# Altium integrated library Analog Devices Data Converters Analog-to-Digital Converters.IntLib: 2404 symbols (part 61 of 346)
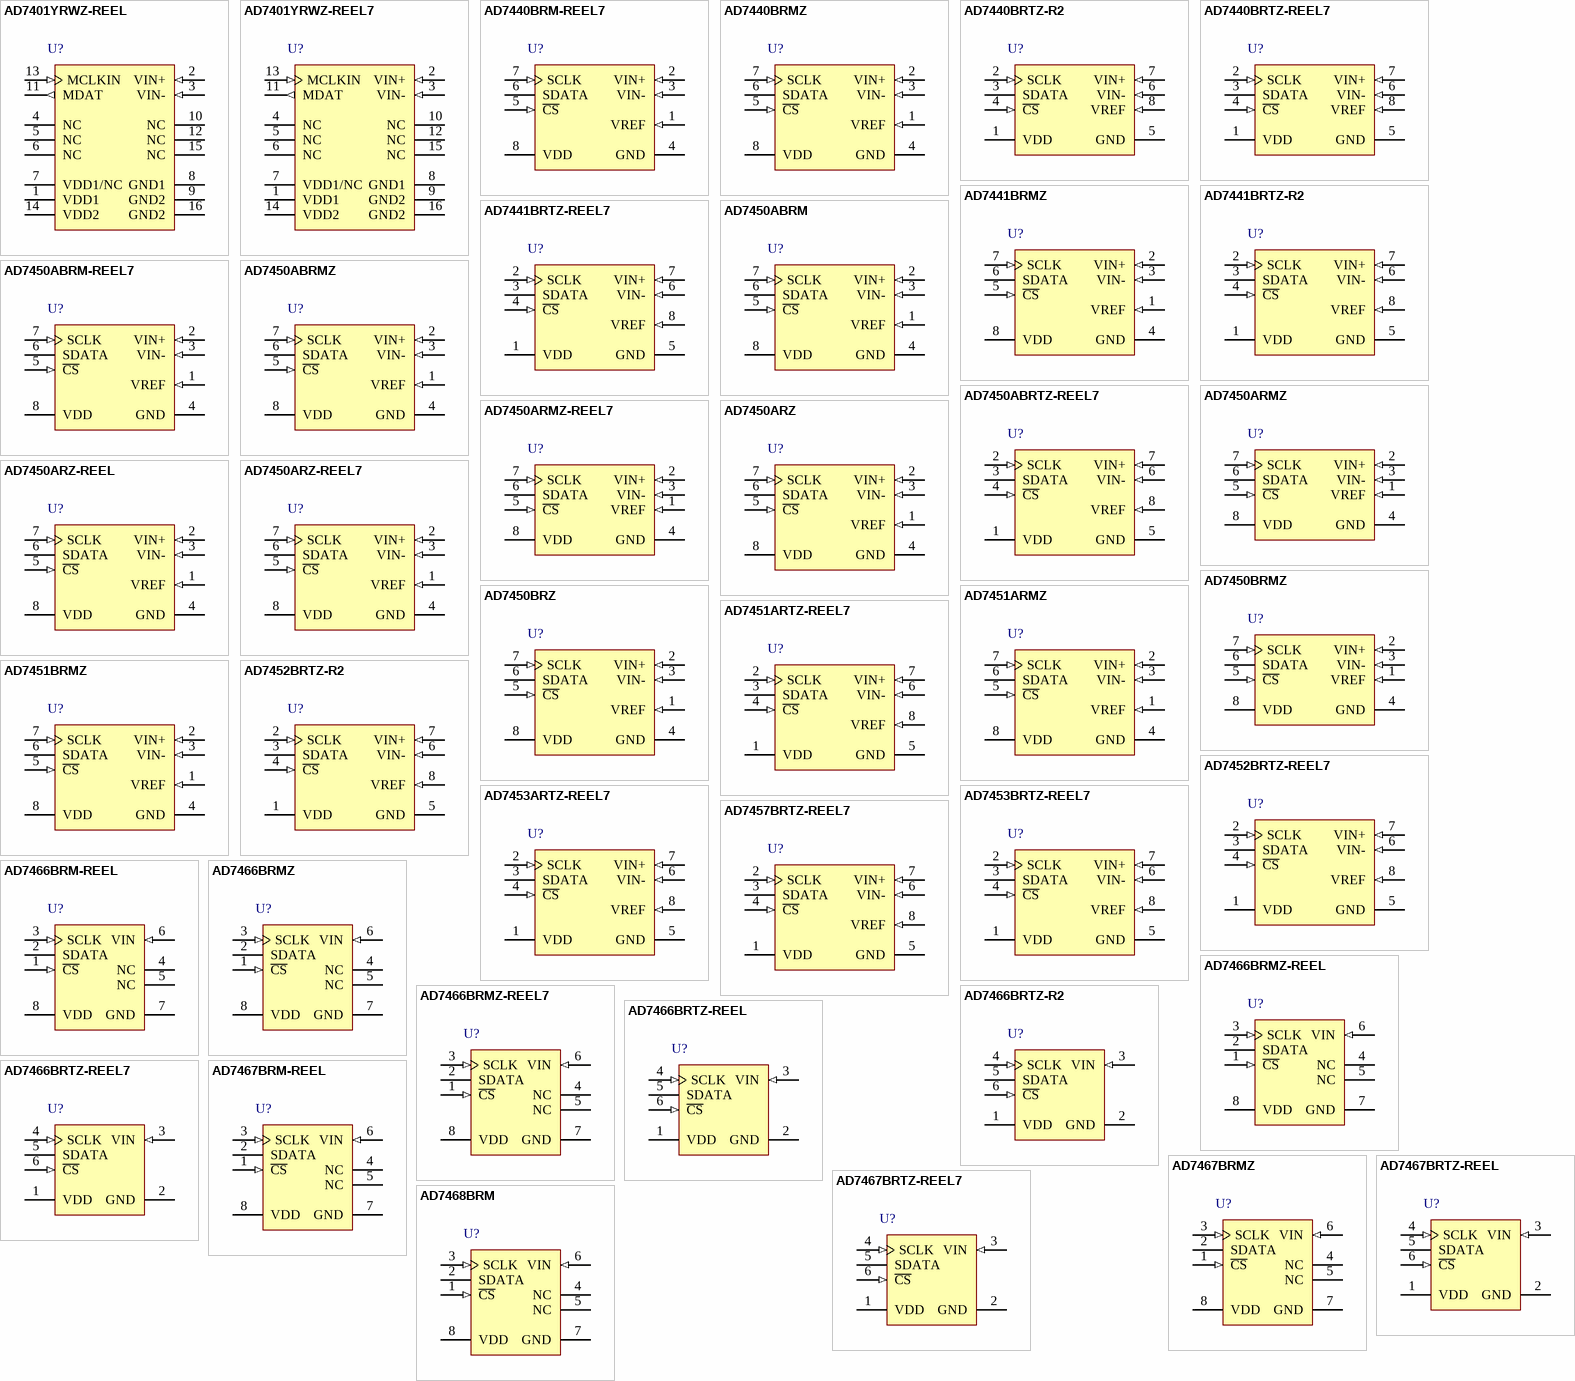
[diagram p288: symbols AD7401YRWZ-REEL to AD7468BRM]

## AD7453ARTZ-REEL7
designator U?
Single 12-Bit Analog-to-Digital Converter with Serial, SPI Interface, 555KSPS, -40 to +85 degC, RJ-8, Pb-Free, Reel; Generic Part Number: AD7453; Manufacturer: Analog Devices; PartNumber: AD7453ARTZ-REEL7; Resolution (Bits): 12; Channels: 1; Throughput Rate (SPS): 555K; Interface: Ser, SPI; DatasheetVersion: Rev.B; PackageVersion: 121608-A; PackageReference: RJ-8; PackageDescription: 8-Lead Thin Small Outline Transistor Package [SOT-23]; Supplier 1: Digi-Key; Supplier Part Number 1: AD7453ARTZ-REEL7TR-ND; Supplier 2: Digi-Key; Supplier Part Number 2: AD7453ARTZ-REEL7CT-ND; Supplier 3: Digi-Key; Supplier Part Number 3: AD7453ARTZ-REEL7DKR-ND; Supplier 4: Mouser; Supplier Part Number 4: 584-AD7453ARTZ-R7; RoHS: Y; Packing: Reel; Mounting Technology: Surface Mount; Code_JEDEC: MO-178-BA; ComponentLink1Description: Manufacturer URL; ComponentLink1URL: http://www.analog.com/en/index.html; ComponentLink2Description: Datasheet; ComponentLink2URL: http://www.analog.com/static/imported-files/data_sheets/AD7453.pdf; ComponentLink3Description: Package Specification; ComponentLink3URL: http://www.analog.com/static/imported-files/packages/PKG_PDF/SOT-23(RJ)/RJ_8.pdf; ComponentLink4Description: Product URL; ComponentLink4URL: http://www.analog.com/en/analog-to-digital-converters/ad-converters/ad7453/products/product.html
footprint RJ-8_N (SOP, 8-Leads, Body 2.9x1.6mm, Pitch 0.65mm, IPC Medium Density)
footprint RJ-8_L (SOP, 8-Leads, Body 2.9x1.6mm, Pitch 0.65mm, IPC High Density)
footprint RJ-8_M (SOP, 8-Leads, Body 2.9x1.6mm, Pitch 0.65mm, IPC Low Density)
pins: 1 VDD (power) "Power Supply Input. VDD is 2.7 V to 5.25 V. This supply should be decoupled to GND with a 0.1 uF capacitor and a 10 uF tantalum capacitor.", 2 SCLK (in) "Serial Clock. Logic input. SCLK provides the serial clock for accessing data from the part. This clock input is also used as the clock source for the conversion process.", 3 SDATA (hiz) "Serial Data. Logic output. The conversion result from the AD7453 is provided on this output as a serial data stream. The bits are clocked out on the falling edge of the SCLK input. The data stream of the AD7453 consists of (See Datasheet)", 4 ~{CS} (in) "Chip Select. Active low logic input. This input provides the dual function of initiating a conversion on the AD7453 and framing the serial data transfer.", 5 GND (power) "Analog Ground. Ground reference point for all circuitry on the AD7453. All analog input signals and any external reference signal should be referred to this GND voltage.", 6 VIN- (in) "Inverting Input. This pin sets the ground reference point for the VIN+ input. Connect to ground or to a dc offset to provide a pseudo ground.", 7 VIN+ (in) "Noninverting Analog Input.", 8 VREF (in) "Reference Input for the AD7453. An external reference in the range 100 mV to VDD must be applied to this input. The specified reference input is 2.5 V. This pin should be decoupled to GND with a capacitor of at least 0.1 uF."

## AD7453BRTZ-REEL7
designator U?
Single 12-Bit Analog-to-Digital Converter with Serial, SPI Interface, 555KSPS, -40 to +85 degC, RJ-8, Pb-Free, Reel; Generic Part Number: AD7453; Manufacturer: Analog Devices; PartNumber: AD7453BRTZ-REEL7; Resolution (Bits): 12; Channels: 1; Throughput Rate (SPS): 555K; Interface: Ser, SPI; DatasheetVersion: Rev.B; PackageVersion: 121608-A; PackageReference: RJ-8; PackageDescription: 8-Lead Thin Small Outline Transistor Package [SOT-23]; Supplier 1: Digi-Key; Supplier Part Number 1: AD7453BRTZ-REEL7-ND; Supplier 2: Mouser; Supplier Part Number 2: 584-AD7453BRTZ-R7; RoHS: Y; Packing: Reel; Mounting Technology: Surface Mount; Code_JEDEC: MO-178-BA; ComponentLink1Description: Manufacturer URL; ComponentLink1URL: http://www.analog.com/en/index.html; ComponentLink2Description: Datasheet; ComponentLink2URL: http://www.analog.com/static/imported-files/data_sheets/AD7453.pdf; ComponentLink3Description: Package Specification; ComponentLink3URL: http://www.analog.com/static/imported-files/packages/PKG_PDF/SOT-23(RJ)/RJ_8.pdf; ComponentLink4Description: Product URL; ComponentLink4URL: http://www.analog.com/en/analog-to-digital-converters/ad-converters/ad7453/products/product.html
footprint RJ-8_N (SOP, 8-Leads, Body 2.9x1.6mm, Pitch 0.65mm, IPC Medium Density)
footprint RJ-8_L (SOP, 8-Leads, Body 2.9x1.6mm, Pitch 0.65mm, IPC High Density)
footprint RJ-8_M (SOP, 8-Leads, Body 2.9x1.6mm, Pitch 0.65mm, IPC Low Density)
pins: 1 VDD (power) "Power Supply Input. VDD is 2.7 V to 5.25 V. This supply should be decoupled to GND with a 0.1 uF capacitor and a 10 uF tantalum capacitor.", 2 SCLK (in) "Serial Clock. Logic input. SCLK provides the serial clock for accessing data from the part. This clock input is also used as the clock source for the conversion process.", 3 SDATA (hiz) "Serial Data. Logic output. The conversion result from the AD7453 is provided on this output as a serial data stream. The bits are clocked out on the falling edge of the SCLK input. The data stream of the AD7453 consists of (See Datasheet)", 4 ~{CS} (in) "Chip Select. Active low logic input. This input provides the dual function of initiating a conversion on the AD7453 and framing the serial data transfer.", 5 GND (power) "Analog Ground. Ground reference point for all circuitry on the AD7453. All analog input signals and any external reference signal should be referred to this GND voltage.", 6 VIN- (in) "Inverting Input. This pin sets the ground reference point for the VIN+ input. Connect to ground or to a dc offset to provide a pseudo ground.", 7 VIN+ (in) "Noninverting Analog Input.", 8 VREF (in) "Reference Input for the AD7453. An external reference in the range 100 mV to VDD must be applied to this input. The specified reference input is 2.5 V. This pin should be decoupled to GND with a capacitor of at least 0.1 uF."

## AD7457BRTZ-REEL7
designator U?
Single 12-Bit Low Power Analog-to-Digital Converter with Serial, SPI Interface, 100KSPS, -40 to +85 degC, RJ-8, Pb-Free, Reel; Generic Part Number: AD7457; Manufacturer: Analog Devices; PartNumber: AD7457BRTZ-REEL7; Resolution (Bits): 12; Channels: 1; Throughput Rate (SPS): 100K; Interface: Ser, SPI; DatasheetVersion: Rev.A; PackageVersion: 121608-A; PackageReference: RJ-8; PackageDescription: 8-Lead Thin Small Outline Transistor Package [SOT-23]; Supplier 1: Digi-Key; Supplier Part Number 1: AD7457BRTZ-REEL7TR-ND; Supplier 2: Digi-Key; Supplier Part Number 2: AD7457BRTZ-REEL7CT-ND; Supplier 3: Digi-Key; Supplier Part Number 3: AD7457BRTZ-REEL7DKR-ND; Supplier 4: Farnell; Supplier Part Number 4: 2314135; Supplier 5: Newark; Supplier Part Number 5: 67W3172; Supplier 6: Newark; Supplier Part Number 6: 59K4842; Supplier 7: Mouser; Supplier Part Number 7: 584-AD7457BRTZ-R7; RoHS: Y; Packing: Reel; Mounting Technology: Surface Mount; Code_JEDEC: MO-178-BA; ComponentLink1Description: Manufacturer URL; ComponentLink1URL: http://www.analog.com/en/index.html; ComponentLink2Description: Datasheet; ComponentLink2URL: http://www.analog.com/static/imported-files/data_sheets/AD7457.pdf; ComponentLink3Description: Package Specification; ComponentLink3URL: http://www.analog.com/static/imported-files/packages/PKG_PDF/SOT-23(RJ)/RJ_8.pdf; ComponentLink4Description: Product URL; ComponentLink4URL: http://www.analog.com/en/analog-to-digital-converters/ad-converters/ad7457/products/product.html
footprint RJ-8_N (SOP, 8-Leads, Body 2.9x1.6mm, Pitch 0.65mm, IPC Medium Density)
footprint RJ-8_L (SOP, 8-Leads, Body 2.9x1.6mm, Pitch 0.65mm, IPC High Density)
footprint RJ-8_M (SOP, 8-Leads, Body 2.9x1.6mm, Pitch 0.65mm, IPC Low Density)
pins: 1 VDD (power) "Power Supply Input. VDD is 2.7 V to 5.25 V. This supply should be decoupled to GND with a 0.1 uF capacitor and a 10 uF tantalum capacitor.", 2 SCLK (in) "Serial Clock. Logic input. SCLK provides the serial clock for accessing data from the part. This clock input is also used as the clock source for the conversion process.", 3 SDATA (hiz) "Serial Data. Logic output. The conversion result from the AD7457 is provided on this output as a serial data stream. The bits are clocked out on the falling edge of the SCLK input. The data stream of the AD7457 consists of (See Datasheet)", 4 ~{CS} (in) "Chip Select. This input provides the dual function of powering up the device and initiating a conversion on the AD7457.", 5 GND (power) "Analog Ground. Ground reference point for all circuitry on the AD7457. All analog input signals and any external reference signal should be referred to this GND voltage.", 6 VIN- (in) "Inverting Input. This pin sets the ground reference point for the VIN+ input. Connect to ground or to a dc offset to provide a pseudo ground.", 7 VIN+ (in) "Noninverting Analog Input.", 8 VREF (in) "Reference Input for the AD7457. An external reference in the range 100 mV to VDD must be applied to this input. The specified reference input is 2.5 V. This pin should be decoupled to GND with a capacitor of at least 0.33 uF."

## AD7466BRM-REEL
designator U?
Single 12-Bit Analog-to-Digital Converter with Serial, SPI Interface, 200KSPS, 0 to +70 degC, RM-8, Reel; Generic Part Number: AD7466; Manufacturer: Analog Devices; PartNumber: AD7466BRM-REEL; Resolution (Bits): 12; Channels: 1; Throughput Rate (SPS): 200K; Interface: Ser, SPI; DatasheetVersion: Rev.C; PackageVersion: Aug-2005; PackageReference: RM-8; PackageDescription: 8-Lead Mini Small Outline Package [MSOP]; Supplier 1: Mouser; Supplier Part Number 1: N/A; RoHS: N; Packing: Reel; Mounting Technology: Surface Mount; Code_JEDEC: MO-187-AA; ComponentLink1Description: Manufacturer URL; ComponentLink1URL: http://www.analog.com/en/index.html; ComponentLink2Description: Datasheet; ComponentLink2URL: http://www.analog.com/static/imported-files/data_sheets/AD7466_7467_7468.pdf; ComponentLink3Description: Package Specification; ComponentLink3URL: http://www.analog.com/static/imported-files/packages/PKG_PDF/MSOP%28RM%29/RM_8.pdf; ComponentLink4Description: Product URL; ComponentLink4URL: http://www.analog.com/en/analog-to-digital-converters/ad-converters/ad7466/products/product.html
footprint RM-8_N (TSOP, 8-Leads, Body 3x3mm, Pitch 0.65mm, IPC Medium Density)
footprint RM-8_L (TSOP, 8-Leads, Body 3x3mm, Pitch 0.65mm, IPC High Density)
footprint RM-8_M (TSOP, 8-Leads, Body 3x3mm, Pitch 0.65mm, IPC Low Density)
pins: 1 ~{CS} (in) "Chip Select. Active low logic input. This input provides the dual function of initiating conversions on the devices and frames the serial data transfer.", 2 SDATA (hiz) "Data Out. Logic output. The conversion result from the AD7466/AD7467/AD7468 is provided on this  output as a serial data stream. The bits are clocked out on the falling edge of the SCLK input. The data stream from the AD7466 (See Datasheet)", 3 SCLK (in) "Serial Clock. Logic input. SCLK provides the serial clock for accessing data from the parts. This clock input is also used as the clock source for the conversion process of the parts.", 4 NC "No Connect.", 5 NC "No Connect.", 6 VIN (in) "Analog Input. Single-ended analog input channel. The input range is 0 V to VDD.", 7 GND (power) "Analog Ground. Ground reference point for all circuitry on the devices. All analog input signals should be referred to this GND voltage.", 8 VDD (power) "Power Supply Input. The VDD range for the devices is from 1.6 V to 3.6 V."

## AD7466BRMZ
designator U?
Single 12-Bit Analog-to-Digital Converter with Serial, SPI Interface, 200KSPS, 0 to +70 degC, RM-8, Pb-Free, Tube; Generic Part Number: AD7466; Manufacturer: Analog Devices; PartNumber: AD7466BRMZ; Resolution (Bits): 12; Channels: 1; Throughput Rate (SPS): 200K; Interface: Ser, SPI; DatasheetVersion: Rev.C; PackageVersion: Aug-2005; PackageReference: RM-8; PackageDescription: 8-Lead Mini Small Outline Package [MSOP]; Supplier 1: Digi-Key; Supplier Part Number 1: AD7466BRMZ-ND; Supplier 2: Farnell; Supplier Part Number 2: 1143260; Supplier 3: Newark; Supplier Part Number 3: 59K4848; Supplier 4: Mouser; Supplier Part Number 4: 584-AD7466BRMZ; RoHS: Y; Packing: Tube; Mounting Technology: Surface Mount; Code_JEDEC: MO-187-AA; ComponentLink1Description: Manufacturer URL; ComponentLink1URL: http://www.analog.com/en/index.html; ComponentLink2Description: Datasheet; ComponentLink2URL: http://www.analog.com/static/imported-files/data_sheets/AD7466_7467_7468.pdf; ComponentLink3Description: Package Specification; ComponentLink3URL: http://www.analog.com/static/imported-files/packages/PKG_PDF/MSOP%28RM%29/RM_8.pdf; ComponentLink4Description: Product URL; ComponentLink4URL: http://www.analog.com/en/analog-to-digital-converters/ad-converters/ad7466/products/product.html
footprint RM-8_N (TSOP, 8-Leads, Body 3x3mm, Pitch 0.65mm, IPC Medium Density)
footprint RM-8_L (TSOP, 8-Leads, Body 3x3mm, Pitch 0.65mm, IPC High Density)
footprint RM-8_M (TSOP, 8-Leads, Body 3x3mm, Pitch 0.65mm, IPC Low Density)
pins: 1 ~{CS} (in) "Chip Select. Active low logic input. This input provides the dual function of initiating conversions on the devices and frames the serial data transfer.", 2 SDATA (hiz) "Data Out. Logic output. The conversion result from the AD7466/AD7467/AD7468 is provided on this  output as a serial data stream. The bits are clocked out on the falling edge of the SCLK input. The data stream from the AD7466 (See Datasheet)", 3 SCLK (in) "Serial Clock. Logic input. SCLK provides the serial clock for accessing data from the parts. This clock input is also used as the clock source for the conversion process of the parts.", 4 NC "No Connect.", 5 NC "No Connect.", 6 VIN (in) "Analog Input. Single-ended analog input channel. The input range is 0 V to VDD.", 7 GND (power) "Analog Ground. Ground reference point for all circuitry on the devices. All analog input signals should be referred to this GND voltage.", 8 VDD (power) "Power Supply Input. The VDD range for the devices is from 1.6 V to 3.6 V."

## AD7466BRMZ-REEL
designator U?
Single 12-Bit Analog-to-Digital Converter with Serial, SPI Interface, 200KSPS, 0 to +70 degC, RM-8, Pb-Free, Reel; Generic Part Number: AD7466; Manufacturer: Analog Devices; PartNumber: AD7466BRMZ-REEL; Resolution (Bits): 12; Channels: 1; Throughput Rate (SPS): 200K; Interface: Ser, SPI; DatasheetVersion: Rev.C; PackageVersion: Aug-2005; PackageReference: RM-8; PackageDescription: 8-Lead Mini Small Outline Package [MSOP]; Supplier 1: Digi-Key; Supplier Part Number 1: AD7466BRMZ-REEL-ND; Supplier 2: Mouser; Supplier Part Number 2: 584-AD7466BRMZ-R; RoHS: Y; Packing: Reel; Mounting Technology: Surface Mount; Code_JEDEC: MO-187-AA; ComponentLink1Description: Manufacturer URL; ComponentLink1URL: http://www.analog.com/en/index.html; ComponentLink2Description: Datasheet; ComponentLink2URL: http://www.analog.com/static/imported-files/data_sheets/AD7466_7467_7468.pdf; ComponentLink3Description: Package Specification; ComponentLink3URL: http://www.analog.com/static/imported-files/packages/PKG_PDF/MSOP%28RM%29/RM_8.pdf; ComponentLink4Description: Product URL; ComponentLink4URL: http://www.analog.com/en/analog-to-digital-converters/ad-converters/ad7466/products/product.html
footprint RM-8_N (TSOP, 8-Leads, Body 3x3mm, Pitch 0.65mm, IPC Medium Density)
footprint RM-8_L (TSOP, 8-Leads, Body 3x3mm, Pitch 0.65mm, IPC High Density)
footprint RM-8_M (TSOP, 8-Leads, Body 3x3mm, Pitch 0.65mm, IPC Low Density)
pins: 1 ~{CS} (in) "Chip Select. Active low logic input. This input provides the dual function of initiating conversions on the devices and frames the serial data transfer.", 2 SDATA (hiz) "Data Out. Logic output. The conversion result from the AD7466/AD7467/AD7468 is provided on this  output as a serial data stream. The bits are clocked out on the falling edge of the SCLK input. The data stream from the AD7466 (See Datasheet)", 3 SCLK (in) "Serial Clock. Logic input. SCLK provides the serial clock for accessing data from the parts. This clock input is also used as the clock source for the conversion process of the parts.", 4 NC "No Connect.", 5 NC "No Connect.", 6 VIN (in) "Analog Input. Single-ended analog input channel. The input range is 0 V to VDD.", 7 GND (power) "Analog Ground. Ground reference point for all circuitry on the devices. All analog input signals should be referred to this GND voltage.", 8 VDD (power) "Power Supply Input. The VDD range for the devices is from 1.6 V to 3.6 V."

## AD7466BRMZ-REEL7
designator U?
Single 12-Bit Analog-to-Digital Converter with Serial, SPI Interface, 200KSPS, 0 to +70 degC, RM-8, Pb-Free, Reel; Generic Part Number: AD7466; Manufacturer: Analog Devices; PartNumber: AD7466BRMZ-REEL7; Resolution (Bits): 12; Channels: 1; Throughput Rate (SPS): 200K; Interface: Ser, SPI; DatasheetVersion: Rev.C; PackageVersion: Aug-2005; PackageReference: RM-8; PackageDescription: 8-Lead Mini Small Outline Package [MSOP]; Supplier 1: Digi-Key; Supplier Part Number 1: AD7466BRMZ-REEL7-ND; Supplier 2: Newark; Supplier Part Number 2: 59K4850; Supplier 3: Mouser; Supplier Part Number 3: 584-AD7466BRMZ-R7; RoHS: Y; Packing: Reel; Mounting Technology: Surface Mount; Code_JEDEC: MO-187-AA; ComponentLink1Description: Manufacturer URL; ComponentLink1URL: http://www.analog.com/en/index.html; ComponentLink2Description: Datasheet; ComponentLink2URL: http://www.analog.com/static/imported-files/data_sheets/AD7466_7467_7468.pdf; ComponentLink3Description: Package Specification; ComponentLink3URL: http://www.analog.com/static/imported-files/packages/PKG_PDF/MSOP%28RM%29/RM_8.pdf; ComponentLink4Description: Product URL; ComponentLink4URL: http://www.analog.com/en/analog-to-digital-converters/ad-converters/ad7466/products/product.html
footprint RM-8_N (TSOP, 8-Leads, Body 3x3mm, Pitch 0.65mm, IPC Medium Density)
footprint RM-8_L (TSOP, 8-Leads, Body 3x3mm, Pitch 0.65mm, IPC High Density)
footprint RM-8_M (TSOP, 8-Leads, Body 3x3mm, Pitch 0.65mm, IPC Low Density)
pins: 1 ~{CS} (in) "Chip Select. Active low logic input. This input provides the dual function of initiating conversions on the devices and frames the serial data transfer.", 2 SDATA (hiz) "Data Out. Logic output. The conversion result from the AD7466/AD7467/AD7468 is provided on this  output as a serial data stream. The bits are clocked out on the falling edge of the SCLK input. The data stream from the AD7466 (See Datasheet)", 3 SCLK (in) "Serial Clock. Logic input. SCLK provides the serial clock for accessing data from the parts. This clock input is also used as the clock source for the conversion process of the parts.", 4 NC "No Connect.", 5 NC "No Connect.", 6 VIN (in) "Analog Input. Single-ended analog input channel. The input range is 0 V to VDD.", 7 GND (power) "Analog Ground. Ground reference point for all circuitry on the devices. All analog input signals should be referred to this GND voltage.", 8 VDD (power) "Power Supply Input. The VDD range for the devices is from 1.6 V to 3.6 V."

## AD7466BRTZ-R2
designator U?
Single 12-Bit Analog-to-Digital Converter with Serial, SPI Interface, 200KSPS, 0 to +70 degC, RJ-6, Pb-Free, Reel; Generic Part Number: AD7466; Manufacturer: Analog Devices; PartNumber: AD7466BRTZ-R2; Resolution (Bits): 12; Channels: 1; Throughput Rate (SPS): 200K; Interface: Ser, SPI; DatasheetVersion: Rev.C; PackageVersion: 121608-A; PackageReference: RJ-6; PackageDescription: 6-Lead Small Outline Transistor Package [SOT-23]; Supplier 1: Digi-Key; Supplier Part Number 1: AD7466BRTZ-R2TR-ND; Supplier 2: Digi-Key; Supplier Part Number 2: AD7466BRTZ-R2CT-ND; Supplier 3: Digi-Key; Supplier Part Number 3: AD7466BRTZ-R2DKR-ND; Supplier 4: Farnell; Supplier Part Number 4: 2102519; Supplier 5: Newark; Supplier Part Number 5: 12M8817; Supplier 6: Mouser; Supplier Part Number 6: 584-AD7466BRTZ-R2; RoHS: Y; Packing: Reel; Mounting Technology: Surface Mount; Code_JEDEC: MO-178-AB; ComponentLink1Description: Manufacturer URL; ComponentLink1URL: http://www.analog.com/en/index.html; ComponentLink2Description: Datasheet; ComponentLink2URL: http://www.analog.com/static/imported-files/data_sheets/AD7466_7467_7468.pdf; ComponentLink3Description: Package Specification; ComponentLink3URL: http://www.analog.com/static/imported-files/packages/PKG_PDF/SOT-23(RJ)/RJ_6.pdf; ComponentLink4Description: Product URL; ComponentLink4URL: http://www.analog.com/en/analog-to-digital-converters/ad-converters/ad7466/products/product.html
footprint RJ-6_N (SOT23, 6-Leads, Body 2.9x1.6mm, Pitch 0.95mm, Lead Span 2.8mm, IPC Medium Density)
footprint RJ-6_L (SOT23, 6-Leads, Body 2.9x1.6mm, Pitch 0.95mm, Lead Span 2.8mm, IPC High Density)
footprint RJ-6_M (SOT23, 6-Leads, Body 2.9x1.6mm, Pitch 0.95mm, Lead Span 2.8mm, IPC Low Density)
pins: 1 VDD (power) "Power Supply Input. The VDD range for the devices is from 1.6 V to 3.6 V", 2 GND (power) "Analog Ground. Ground reference point for all circuitry on the devices. All analog input signals should be referred to this GND voltage.", 3 VIN (in) "Analog Input. Single-ended analog input channel. The input range is 0 V to VDD.", 4 SCLK (in) "Serial Clock. Logic input. SCLK provides the serial clock for accessing data from the parts. This clock input is also used as the clock source for the conversion process of the parts.", 5 SDATA (hiz) "Data Out. Logic output. The conversion result from the AD7466/AD7467/AD7468 is provided on this output as a serial data stream. The bits are clocked out on the falling edge of the SCLK input. The data stream from the AD7466 (See Datasheet)", 6 ~{CS} (in) "Chip Select. Active low logic input. This input provides the dual function of initiating conversions on the　devices and frames the serial data transfer."

## AD7466BRTZ-REEL
designator U?
Single 12-Bit Analog-to-Digital Converter with Serial, SPI Interface, 200KSPS, -40 to +85 degC, RJ-6, Pb-Free, Reel; Generic Part Number: AD7466; Manufacturer: Analog Devices; PartNumber: AD7466BRTZ-REEL; Resolution (Bits): 12; Channels: 1; Throughput Rate (SPS): 200K; Interface: Ser, SPI; DatasheetVersion: Rev.C; PackageVersion: 121608-A; PackageReference: RJ-6; PackageDescription: 6-Lead Small Outline Transistor Package [SOT-23]; Supplier 1: Digi-Key; Supplier Part Number 1: AD7466BRTZ-REEL-ND; Supplier 2: Newark; Supplier Part Number 2: 59K4851; Supplier 3: Mouser; Supplier Part Number 3: 584-AD7466BRTZ-R; RoHS: Y; Packing: Reel; Mounting Technology: Surface Mount; Code_JEDEC: MO-178-AB; ComponentLink1Description: Manufacturer URL; ComponentLink1URL: http://www.analog.com/en/index.html; ComponentLink2Description: Datasheet; ComponentLink2URL: http://www.analog.com/static/imported-files/data_sheets/AD7466_7467_7468.pdf; ComponentLink3Description: Package Specification; ComponentLink3URL: http://www.analog.com/static/imported-files/packages/PKG_PDF/SOT-23(RJ)/RJ_6.pdf; ComponentLink4Description: Product URL; ComponentLink4URL: http://www.analog.com/en/analog-to-digital-converters/ad-converters/ad7466/products/product.html
footprint RJ-6_N (SOT23, 6-Leads, Body 2.9x1.6mm, Pitch 0.95mm, Lead Span 2.8mm, IPC Medium Density)
footprint RJ-6_L (SOT23, 6-Leads, Body 2.9x1.6mm, Pitch 0.95mm, Lead Span 2.8mm, IPC High Density)
footprint RJ-6_M (SOT23, 6-Leads, Body 2.9x1.6mm, Pitch 0.95mm, Lead Span 2.8mm, IPC Low Density)
pins: 1 VDD (power) "Power Supply Input. The VDD range for the devices is from 1.6 V to 3.6 V", 2 GND (power) "Analog Ground. Ground reference point for all circuitry on the devices. All analog input signals should be referred to this GND voltage.", 3 VIN (in) "Analog Input. Single-ended analog input channel. The input range is 0 V to VDD.", 4 SCLK (in) "Serial Clock. Logic input. SCLK provides the serial clock for accessing data from the parts. This clock input is also used as the clock source for the conversion process of the parts.", 5 SDATA (hiz) "Data Out. Logic output. The conversion result from the AD7466/AD7467/AD7468 is provided on this output as a serial data stream. The bits are clocked out on the falling edge of the SCLK input. The data stream from the AD7466 (See Datasheet)", 6 ~{CS} (in) "Chip Select. Active low logic input. This input provides the dual function of initiating conversions on the　devices and frames the serial data transfer."

## AD7466BRTZ-REEL7
designator U?
Single 12-Bit Analog-to-Digital Converter with Serial, SPI Interface, 200KSPS, -40 to +85 degC, RJ-6, Pb-Free, Reel; Generic Part Number: AD7466; Manufacturer: Analog Devices; PartNumber: AD7466BRTZ-REEL7; Resolution (Bits): 12; Channels: 1; Throughput Rate (SPS): 200K; Interface: Ser, SPI; DatasheetVersion: Rev.C; PackageVersion: 121608-A; PackageReference: RJ-6; PackageDescription: 6-Lead Small Outline Transistor Package [SOT-23]; Supplier 1: Digi-Key; Supplier Part Number 1: AD7466BRTZREEL7TR-ND; Supplier 2: Digi-Key; Supplier Part Number 2: AD7466BRTZREEL7CT-ND; Supplier 3: Digi-Key; Supplier Part Number 3: AD7466BRTZREEL7DKR-ND; Supplier 4: Newark; Supplier Part Number 4: 59K4852; Supplier 5: Mouser; Supplier Part Number 5: 584-AD7466BRTZ-R7; RoHS: Y; Packing: Reel; Mounting Technology: Surface Mount; Code_JEDEC: MO-178-AB; ComponentLink1Description: Manufacturer URL; ComponentLink1URL: http://www.analog.com/en/index.html; ComponentLink2Description: Datasheet; ComponentLink2URL: http://www.analog.com/static/imported-files/data_sheets/AD7466_7467_7468.pdf; ComponentLink3Description: Package Specification; ComponentLink3URL: http://www.analog.com/static/imported-files/packages/PKG_PDF/SOT-23(RJ)/RJ_6.pdf; ComponentLink4Description: Product URL; ComponentLink4URL: http://www.analog.com/en/analog-to-digital-converters/ad-converters/ad7466/products/product.html
footprint RJ-6_N (SOT23, 6-Leads, Body 2.9x1.6mm, Pitch 0.95mm, Lead Span 2.8mm, IPC Medium Density)
footprint RJ-6_L (SOT23, 6-Leads, Body 2.9x1.6mm, Pitch 0.95mm, Lead Span 2.8mm, IPC High Density)
footprint RJ-6_M (SOT23, 6-Leads, Body 2.9x1.6mm, Pitch 0.95mm, Lead Span 2.8mm, IPC Low Density)
pins: 1 VDD (power) "Power Supply Input. The VDD range for the devices is from 1.6 V to 3.6 V", 2 GND (power) "Analog Ground. Ground reference point for all circuitry on the devices. All analog input signals should be referred to this GND voltage.", 3 VIN (in) "Analog Input. Single-ended analog input channel. The input range is 0 V to VDD.", 4 SCLK (in) "Serial Clock. Logic input. SCLK provides the serial clock for accessing data from the parts. This clock input is also used as the clock source for the conversion process of the parts.", 5 SDATA (hiz) "Data Out. Logic output. The conversion result from the AD7466/AD7467/AD7468 is provided on this output as a serial data stream. The bits are clocked out on the falling edge of the SCLK input. The data stream from the AD7466 (See Datasheet)", 6 ~{CS} (in) "Chip Select. Active low logic input. This input provides the dual function of initiating conversions on the　devices and frames the serial data transfer."